# Altium schematic symbol library Schlib.SchLib: 19 symbols
Pins are listed as number, name and electrical type; pins without a type are passive.

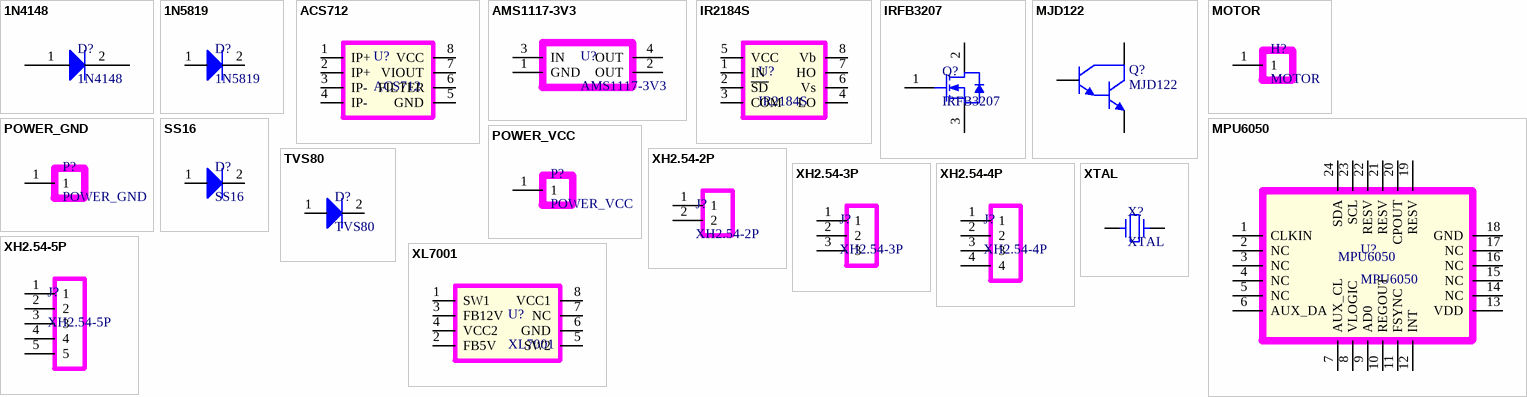
[diagram p0: symbols 1N4148 to XTAL]

## 1N4148
designator D?
footprint SOD80C (Metal Electrode Face (MELF) Diode; Body 3.5 x 1.6 mm (LxDia))
pins: 1, 2

## 1N5819
designator D?
footprint SOD323
pins: 1, 2

## ACS712
designator U?
ACS712ELCTR-05B-T
footprint SOP8L
pins: 1 IP+, 2 IP+, 3 IP-, 4 IP-, 5 GND, 6 FILTER, 7 VIOUT, 8 VCC

## AMS1117-3V3
designator U?
footprint SOT223 (SOT223, 4-Leads, Body 6.5x3.5mm, Pitch 2.3mm, IPC Low Density)
pins: 1 GND, 2 OUT, 3 IN, 4 OUT

## IR2184S
designator U?
footprint SOP8L
pins: 1 IN, 2 ~{SD}, 3 COM, 4 LO, 5 VCC, 6 Vs, 7 HO, 8 Vb

## IRFB3207
designator Q?
footprint TO220-3 (FM, 3-Leads, Body 10x4.4mm, Pitch 2.54mm)
pins: 1 GATE, 2 DRAIN, 3 SOURCE

## MJD122
designator Q?
NPN Darlington Transistor; Published: 8-Jun-2000; LatestRevisionDate: 17-Jan-2003; LatestRevisionNote: PCB Footprint replaced; DatasheetVersion: 1997; PackageVersion: Sep-1998; PackageReference: TO-92A; Publisher: Altium Limited; PackageDescription: TO, Flat Index; 3 In-Line, Axial Leads; Body Dia. 4.5mm; Leads 0.51 x 0.48 mm (max); ComponentLink1Description: Manufacturer Link; ComponentLink1URL: http://www.fairchildsemi.com/; ComponentLink2Description: Datasheet; ComponentLink2URL: http://www.fairchildsemi.com/ds/MP/MPSA14.pdf
simulation model MPSA14 (SUBCKT)
footprint DPAK (DPAK, 3-Leads, Body 9.9x9.2mm, Pitch 2.54mm, IPC Medium Density)
pins: 1, 2, 3

## MOTOR
designator H?
footprint MOTOR
pins: 1

## MPU6050
designator U?
footprint QFN24 (QFN, 24-Leads, Body 4x4mm, Pitch 0.5mm, Thermal Pad 2.8x2.8mm, IPC Medium Density)
pins: 1 CLKIN, 2 NC, 3 NC, 4 NC, 5 NC, 6 AUX_DA, 7 AUX_CL, 8 VLOGIC, 9 AD0, 10 REGOUT, 11 FSYNC, 12 INT, 13 VDD, 14 NC, 15 NC, 16 NC, 17 NC, 18 GND, 19 RESV, 20 CPOUT, 21 RESV, 22 RESV, 23 SCL, 24 SDA

## POWER_GND
designator P?
footprint POWER
pins: 1

## POWER_VCC
designator P?
footprint POWER
pins: 1

## SS16
designator D?
footprint SMA (DO-214-AC/SMA; 2 C-Bend Leads; Body 5 x 2.7 mm, inc. leads (LxW))
pins: 1, 2

## TVS80
designator D?
footprint SMA (DO-214-AC/SMA; 2 C-Bend Leads; Body 5 x 2.7 mm, inc. leads (LxW))
pins: 1, 2

## XH2.54-2P
designator J?
pins: 1, 2

## XH2.54-3P
designator J?
pins: 1, 2, 3

## XH2.54-4P
designator J?
pins: 1, 2, 3, 4

## XH2.54-5P
designator J?
pins: 1, 2, 3, 4, 5

## XL7001
designator U?
footprint SOP8L
pins: 1 SW1, 2 FB5V, 3 FB12V, 4 VCC2, 5 SW2, 6 GND, 7 NC, 8 VCC1

## XTAL
designator X?
footprint XTAL
pins: 1, 2